# Altium footprint library PAD_ROTATED.PcbLib: 1 footprints
Each footprint in its own frame and in the unit in brackets; x right, y up, seen from the top. Pads: shape width x height; smd on the part's side, far side on the other; paste and mask are expansions set on the pad; w line width, h text height; cw(c..) or ccw(c..) is an arc to the next point about the centre after c.
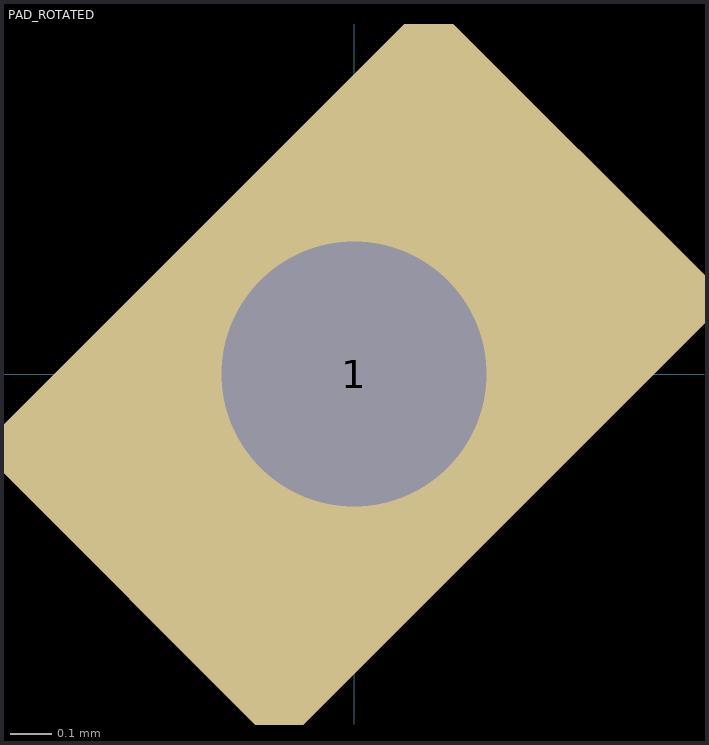
[diagram p0: the footprint, top view; thin cyan lines are the x and y axes]

## PAD_ROTATED [mil] "Rotated pad at 45 degrees"
pads (1):
  rect 60x40 hole 25 rot 45: 1(0,0)